# Altium footprint library SMAW200A.PcbLib: 1 footprints
Each footprint in its own frame and in the unit in brackets; x right, y up, seen from the top. Pads: shape width x height; smd on the part's side, far side on the other; paste and mask are expansions set on the pad; w line width, h text height; cw(c..) or ccw(c..) is an arc to the next point about the centre after c.
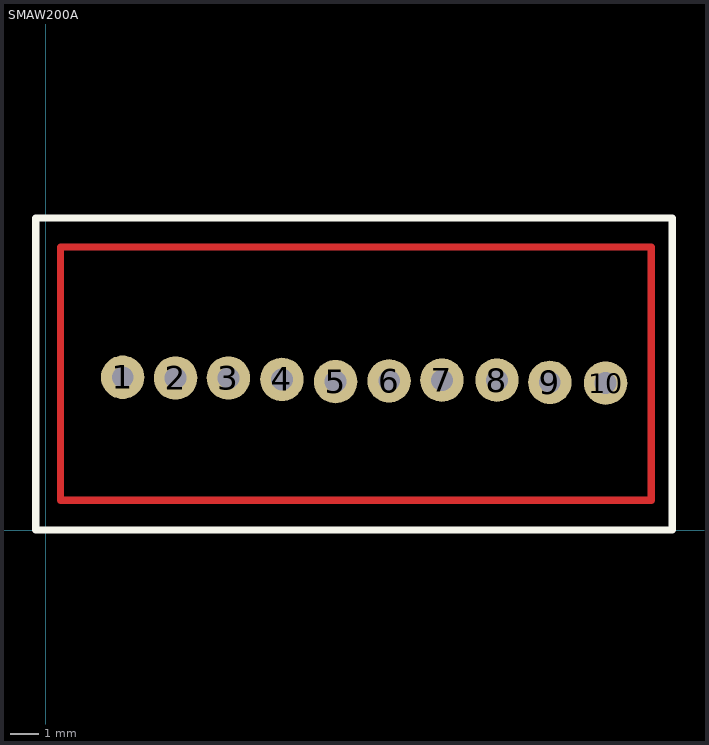
[diagram p0: the footprint, top view; thin cyan lines are the x and y axes]

## SMAW200A [mil]
pads (10):
  round 60 hole 30: 1(106,211) 2(179,210) 3(252,210) 4(326,208) 5(400,205) 6(474,206) 7(547,207) 8(623,207) 9(696,204) 10(773,203)
Top Layer:
  lines w10: 20,41 836,41 836,391 20,391 20,41
Top Overlay:
  lines w10: -14,0 865,0 865,431 -14,431 -14,0
3D body: height 39.49, standoff 0, extent -9.5,4.5 859.5,425.5